# Altium schematic symbol library SCH - CONNECTORS - Molex 347730140.Schlib: 1 symbol
Pins are listed as number, name and electrical type; pins without a type are passive.

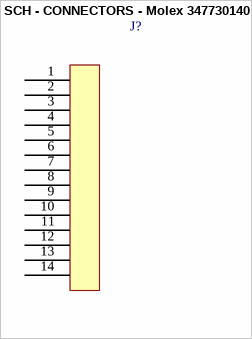
[diagram p0: symbol SCH - CONNECTORS - Molex 347730140]

## SCH - CONNECTORS - Molex 347730140
designator J?
footprint 34773-0140 (Stac64™ Hybrid Header, 14 Circuits, Right-Angle, Polarization A, Black, Tray)
pins: 1, 2, 3, 4, 5, 6, 7, 8, 9, 10, 11, 12, 13, 14